# EAGLE library part AS5045 (library hsk_2012)
12 Bit Programmable Magnetic Rotary Encoder Source: www.austriamicrosystems.com .. AS5045_Datasheet_v1_7.pdf
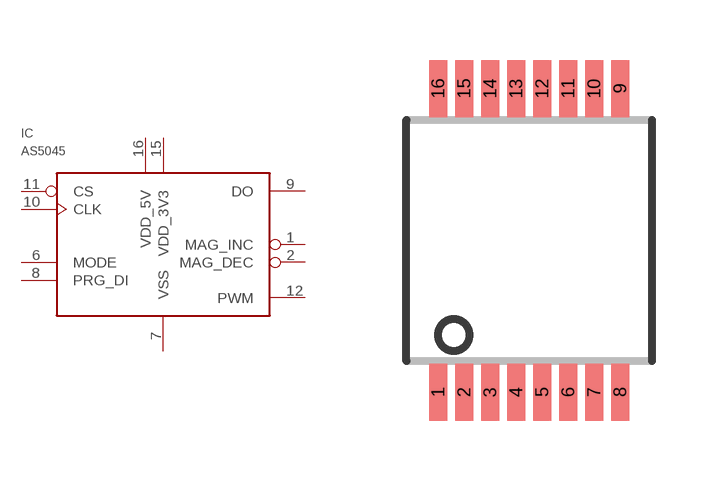
[diagram p49: symbol with the pads of SSOP16; footprint SSOP16]

Designator prefix IC

## AS5045  [SSOP16]
1  MAG_INC  out
2  MAG_DEC  out
6  MODE  in
7  VSS  pwr
8  PRG_DI  in
9  DO  out
10  CLK  in
11  CS  in
12  PWM  out
15  VDD_3V3  pwr
16  VDD_5V  pwr

## Footprint SSOP16 (pad centres in mm)
Small Shrink Outline Package SSOP 16 (5.3mm x 6.2mm) Source: www.austriamicrosystems.com .. AS5040DataSheetRev12.pdf
smd 0.46 x 1.43: 1 -2.275,-3.795; 2 -1.625,-3.795; 3 -0.975,-3.795; 4 -0.325,-3.795; 5 0.325,-3.795; 6 0.975,-3.795; 7 1.625,-3.795; 8 2.275,-3.795; 9 2.275,3.795; 10 1.625,3.795; 11 0.975,3.795; 12 0.325,3.795; 13 -0.325,3.795; 14 -0.975,3.795; 15 -1.625,3.795; 16 -2.275,3.795